# Altium integrated library wirepad.IntLib: 33 symbols
Pins are listed as number, name and electrical type; pins without a type are passive.

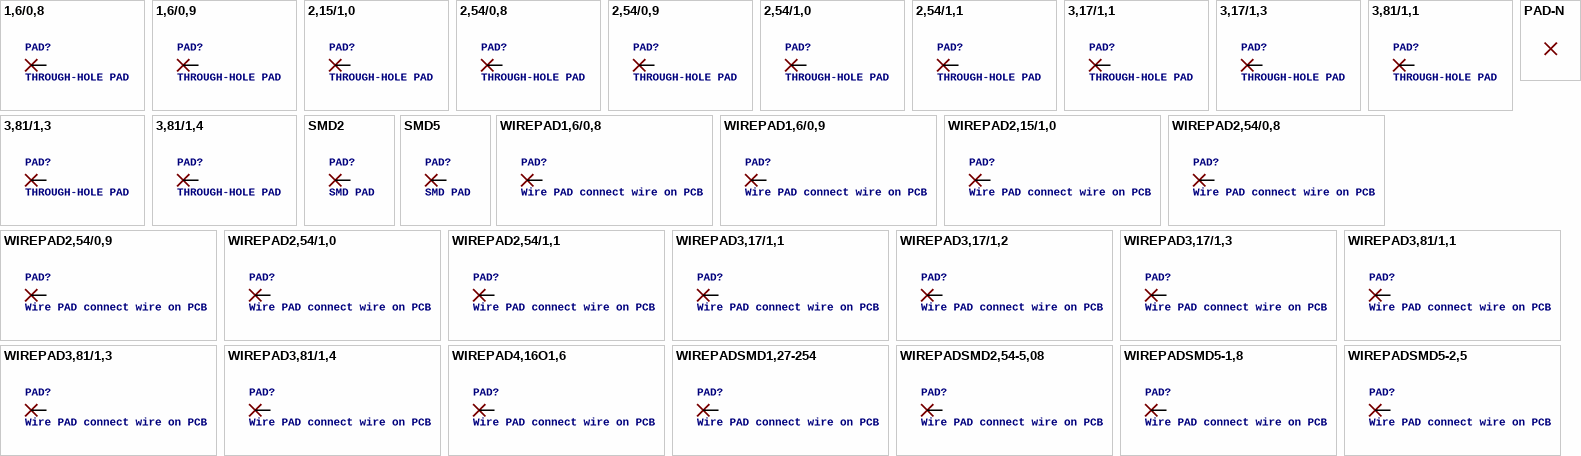
[diagram p0: symbols 1,6/0,8 to WIREPADSMD5-2,5]

## 1,6/0,8
designator PAD?, comment THROUGH-HOLE PAD
footprint 1,6/0,8
pins: 1 P

## 1,6/0,9
designator PAD?, comment THROUGH-HOLE PAD
footprint 1,6/0,9
pins: 1 P

## 2,15/1,0
designator PAD?, comment THROUGH-HOLE PAD
footprint 2,15/1,0
pins: 1 P

## 2,54/0,8
designator PAD?, comment THROUGH-HOLE PAD
footprint 2,54/0,8
pins: 1 P

## 2,54/0,9
designator PAD?, comment THROUGH-HOLE PAD
footprint 2,54/0,9
pins: 1 P

## 2,54/1,0
designator PAD?, comment THROUGH-HOLE PAD
footprint 2,54/1,0
pins: 1 P

## 2,54/1,1
designator PAD?, comment THROUGH-HOLE PAD
footprint 2,54/1,1
pins: 1 P

## 3,17/1,1
designator PAD?, comment THROUGH-HOLE PAD
footprint 3,17/1,1
pins: 1 P

## 3,17/1,3
designator PAD?, comment THROUGH-HOLE PAD
footprint 3,17/1,3
pins: 1 P

## 3,81/1,1
designator PAD?, comment THROUGH-HOLE PAD
footprint 3,81/1,1
pins: 1 P

## 3,81/1,3
designator PAD?, comment THROUGH-HOLE PAD
footprint 3,81/1,3
pins: 1 P

## 3,81/1,4
designator PAD?, comment THROUGH-HOLE PAD
footprint 3,81/1,4
pins: 1 P

## PAD-N
designator X?, comment PAD SYMBOL  (value not drawn)

## SMD2
designator PAD?, comment SMD PAD
footprint SMD1,27-2,54
pins: 1 P

## SMD5
designator PAD?, comment SMD PAD
footprint SMD2,54-5,08
pins: 1 P

## WIREPAD1,6/0,8
designator PAD?, comment Wire PAD connect wire on PCB
footprint 1,6/0,8
pins: 1 P

## WIREPAD1,6/0,9
designator PAD?, comment Wire PAD connect wire on PCB
footprint 1,6/0,9
pins: 1 P

## WIREPAD2,15/1,0
designator PAD?, comment Wire PAD connect wire on PCB
footprint 2,15/1,0
pins: 1 P

## WIREPAD2,54/0,8
designator PAD?, comment Wire PAD connect wire on PCB
footprint 2,54/0,8
pins: 1 P

## WIREPAD2,54/0,9
designator PAD?, comment Wire PAD connect wire on PCB
footprint 2,54/0,9
pins: 1 P

## WIREPAD2,54/1,0
designator PAD?, comment Wire PAD connect wire on PCB
footprint 2,54/1,0
pins: 1 P

## WIREPAD2,54/1,1
designator PAD?, comment Wire PAD connect wire on PCB
footprint 2,54/1,1
pins: 1 P

## WIREPAD3,17/1,1
designator PAD?, comment Wire PAD connect wire on PCB
footprint 3,17/1,1
pins: 1 P

## WIREPAD3,17/1,2
designator PAD?, comment Wire PAD connect wire on PCB
footprint 3,17/1,2
pins: 1 P

## WIREPAD3,17/1,3
designator PAD?, comment Wire PAD connect wire on PCB
footprint 3,17/1,3
pins: 1 P

## WIREPAD3,81/1,1
designator PAD?, comment Wire PAD connect wire on PCB
footprint 3,81/1,1
pins: 1 P

## WIREPAD3,81/1,3
designator PAD?, comment Wire PAD connect wire on PCB
footprint 3,81/1,3
pins: 1 P

## WIREPAD3,81/1,4
designator PAD?, comment Wire PAD connect wire on PCB
footprint 3,81/1,4
pins: 1 P

## WIREPAD4,16O1,6
designator PAD?, comment Wire PAD connect wire on PCB
footprint 4,16O1,6
pins: 1 P

## WIREPADSMD1,27-254
designator PAD?, comment Wire PAD connect wire on PCB
footprint SMD1,27-2,54
pins: 1 P

## WIREPADSMD2,54-5,08
designator PAD?, comment Wire PAD connect wire on PCB
footprint SMD2,54-5,08
pins: 1 P

## WIREPADSMD5-1,8
designator PAD?, comment Wire PAD connect wire on PCB
footprint 5-1,8
pins: 1 P

## WIREPADSMD5-2,5
designator PAD?, comment Wire PAD connect wire on PCB
footprint 5-2,5
pins: 1 P